# Altium schematic symbol library Boton.SchLib: 1 symbol
Pins are listed as number, name and electrical type; pins without a type are passive.

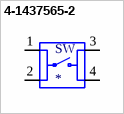
[diagram p0: symbol 4-1437565-2]

## 4-1437565-2
designator SW
Switch Tactile OFF _ON_ SPST Round Button Gull Wing 0.05A 24VDC 1VA 9.18N SMD T/R; MF: TE Connectivity; MP: FSM4JSMATR; Package: None; Price: None; TE_purchase_URL: https://www.te.com/usa-en/product-4-1437565-2.html?te_bu=Cor&te_type=disp&te_campaign=seda_glo_cor-seda-global-disp-prtnr-fy19-seda-model-bom-cta_sma-317_1&elqCampaignId=32493; SnapEDA_Link: https://www.snapeda.com/parts/FSM4JSMATR/TE%20Connectivity%20ALCOSWITCH%20Switches/view-part/2774279/?ref=snap; Availability: Unavailable; Value: *
footprint SW_4-1437565-2
pins: 1, 2, 3, 4